# Altium schematic symbol library Connector.SchLib: 50 symbols
Pins are listed as number, name and electrical type; pins without a type are passive.

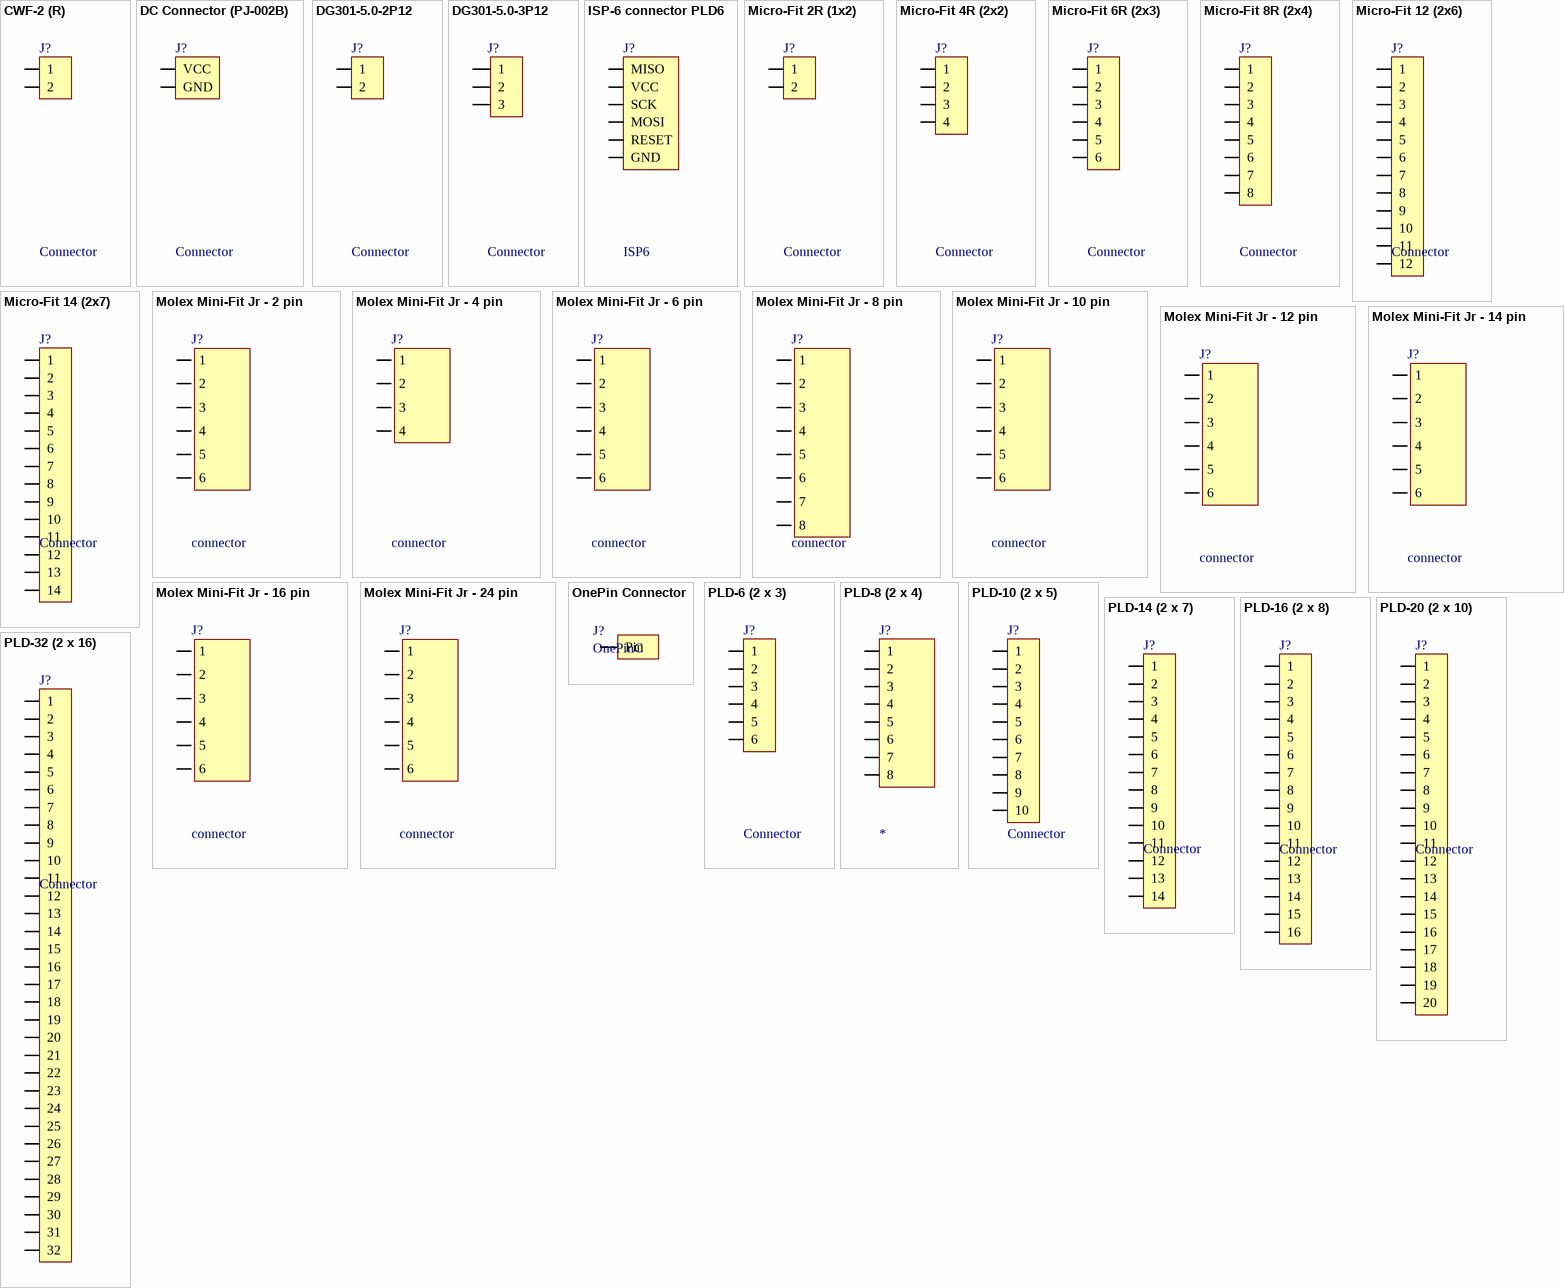
[diagram p0: symbols CWF-2 (R) to PLD-32 (2 x 16)]

## CWF-2 (R)
designator J?, comment Connector
CWF series
footprint CWF-2
footprint CWF-2 R
pins: 1, 2

## DC Connector (PJ-002B)
designator J?, comment Connector
DC Connector; Ext Pin Diameter: 5.5mm; Int Pin Diameter: 2.5
footprint DC Connector (Ext Pin D: 5.5mm; Int Pin D: 2.5mm)
pins: GND, VCC

## DG301-5.0-2P12
designator J?, comment Connector
DG301 series
footprint DG301 5mm 2p
pins: 1, 2

## DG301-5.0-3P12
designator J?, comment Connector
DG301 series
footprint DG301 5mm 3p
pins: 1, 2, 3

## ISP-6 connector PLD6
designator J?, comment ISP6
footprint LINE 2.54 x 6D (2 x 3)
pins: 1 MISO, 2 VCC, 3 SCK, 4 MOSI, 5 RESET, 6 GND

## Micro-Fit 2R (1x2)
designator J?, comment Connector
Horisontal, Dbl line, Male - 3mm; Part Number: 430450200; Name: Micro-Fit 3.0; URL: http://www.molex.com/molex/products/datasheet.jsp?part=active/0430450200_PCB_HEADERS.xml
footprint Molex Micro-Fit 3.0 - 2 pin D
footprint Molex Micro-Fit 3.0 - 2 pin D R
footprint Molex Micro-Fit 3.0 - 2 pin D NoCase
pins: 1, 2

## Micro-Fit 4R (2x2)
designator J?, comment Connector
Horisontal, Dbl line, Male - 3mm; Part Number: 0430450402; Name: Micro-Fit 3.0; URL: http://www.molex.com/molex/products/datasheet.jsp?part=active/0430450402_PCB_HEADERS.xml
footprint Molex Micro-Fit 3.0 - 4 pin D
footprint Molex Micro-Fit 3.0 - 4 pin D R
footprint Molex Micro-Fit 3.0 - 4 pin D NoCase
pins: 1, 2, 3, 4

## Micro-Fit 6R (2x3)
designator J?, comment Connector
Horisontal, Dbl line, Male - 3mm
footprint Molex Micro-Fit 3.0 - 6 pin D R
pins: 1, 2, 3, 4, 5, 6

## Micro-Fit 8R (2x4)
designator J?, comment Connector
Horisontal, Dbl line, Male - 3mm
footprint Molex Micro-Fit 3.0 - 8 pin D R
pins: 1, 2, 3, 4, 5, 6, 7, 8

## Micro-Fit 12 (2x6)
designator J?, comment Connector
Horisontal, Dbl line, Male
footprint Molex Micro-Fit 3.0 - 12 pin D R
pins: 1, 2, 3, 4, 5, 6, 7, 8, 9, 10, 11, 12

## Micro-Fit 14 (2x7)
designator J?, comment Connector
Horisontal, Dbl line, Male
footprint Molex Micro-Fit 3.0 - 14 pin D R
pins: 1, 2, 3, 4, 5, 6, 7, 8, 9, 10, 11, 12, 13, 14

## Molex Mini-Fit Jr - 2 pin
designator J?, comment connector
Right, Dbl line, Female
pins: 1, 2, 3, 4, 5, 6

## Molex Mini-Fit Jr - 4 pin
designator J?, comment connector
Right, Dbl line, Female
footprint Molex Mini-Fit Jr - 4Pin R (Molex Mega-Fit)
footprint Molex Mini-Fit Jr - 4Pin V (Molex Mega-Fit)
pins: 1, 2, 3, 4

## Molex Mini-Fit Jr - 6 pin
designator J?, comment connector
Right, Dbl line, Female
footprint Molex Mini-Fit Jr - 6Pin R (Molex Mega-Fit)
footprint Molex Mini-Fit Jr - 6Pin V (Molex Mega-Fit)
pins: 1, 2, 3, 4, 5, 6

## Molex Mini-Fit Jr - 8 pin
designator J?, comment connector
Right, Dbl line, Female
footprint Molex Mini-Fit Jr - 8Pin V (Molex Mega-Fit)
pins: 1, 2, 3, 4, 5, 6, 7, 8

## Molex Mini-Fit Jr - 10 pin
designator J?, comment connector
Right, Dbl line, Female
pins: 1, 2, 3, 4, 5, 6

## Molex Mini-Fit Jr - 12 pin
designator J?, comment connector
Right, Dbl line, Female
pins: 1, 2, 3, 4, 5, 6

## Molex Mini-Fit Jr - 14 pin
designator J?, comment connector
Right, Dbl line, Female
pins: 1, 2, 3, 4, 5, 6

## Molex Mini-Fit Jr - 16 pin
designator J?, comment connector
Right, Dbl line, Female
pins: 1, 2, 3, 4, 5, 6

## Molex Mini-Fit Jr - 24 pin
designator J?, comment connector
Right, Dbl line, Female
pins: 1, 2, 3, 4, 5, 6

## OnePin Connector
designator J?, comment OnePinC
Only pad
footprint OnePin 0.7x2
footprint OnePin 1x2
footprint OnePin 1x2.5
footprint OnePin 1.2x3
footprint OnePin 1.5x4
footprint OnePin 3x8mm
footprint OnePin 3x10mm
footprint OnePin 3x10mm Hole 0.7x8
footprint OnePin 3x10mm Hole 1x8
footprint OnePin 1x2 - Rounded
footprint OnePin 1x2 - Square
footprint OnePin 1.2x3 - Rounded
footprint OnePin 1.2x3 - Square
footprint OnePin 1.5x3
footprint OnePin 1.5x3 - Rounded
footprint OnePin 1.5x3 - Square
footprint OnePin 1.5x4 - Rounded
footprint OnePin 1.5x4 - Square
footprint OnePin 1.8x4
footprint OnePin 1.8x4 - Rounded
footprint OnePin 1.8x4 - Square
pins: 1 Pin

## PLD-6 (2 x 3)
designator J?, comment Connector
Vert, Dbl line, Male
footprint LINE 2.54 x 6D (2 x 3)
pins: 1, 2, 3, 4, 5, 6

## PLD-8 (2 x 4)
designator J?
Vert, Sgl line, Male
footprint Line 2.54 X 8D (2 x 4)
pins: 1, 2, 3, 4, 5, 6, 7, 8

## PLD-10 (2 x 5)
designator J?, comment Connector
Vert, Dbl line, Male
footprint LINE 2.54 x 10D (2 x 5)
footprint LINE 2.54 x 10D (2 x 5) - BH
pins: 1, 2, 3, 4, 5, 6, 7, 8, 9, 10

## PLD-14 (2 x 7)
designator J?, comment Connector
Vert, Dbl line, Male
footprint LINE 2.54 x 14D (2 x 7)
pins: 1, 2, 3, 4, 5, 6, 7, 8, 9, 10, 11, 12, 13, 14

## PLD-16 (2 x 8)
designator J?, comment Connector
Vert, Dbl line, Male
footprint LINE 2.54 x 16D (2 x 8)
footprint LINE 2.54 x 16D (2 x 8) Mirrored
footprint LINE 2.54 x 16D (2 x 8) BH
pins: 1, 2, 3, 4, 5, 6, 7, 8, 9, 10, 11, 12, 13, 14, 15, 16

## PLD-20 (2 x 10)
designator J?, comment Connector
Vert, Dbl line, Male
footprint LINE 2.54 x 20D (2 x 10)
footprint LINE 2.54 x 20D (2 x 10) - BH
pins: 1, 2, 3, 4, 5, 6, 7, 8, 9, 10, 11, 12, 13, 14, 15, 16, 17, 18, 19, 20

## PLD-32 (2 x 16)
designator J?, comment Connector
Vert, Dbl line, Male
footprint LINE 2.54 x 32D (2 x 16)
pins: 1, 2, 3, 4, 5, 6, 7, 8, 9, 10, 11, 12, 13, 14, 15, 16, 17, 18, 19, 20, 21, 22, 23, 24, 25, 26, 27, 28, 29, 30, 31, 32

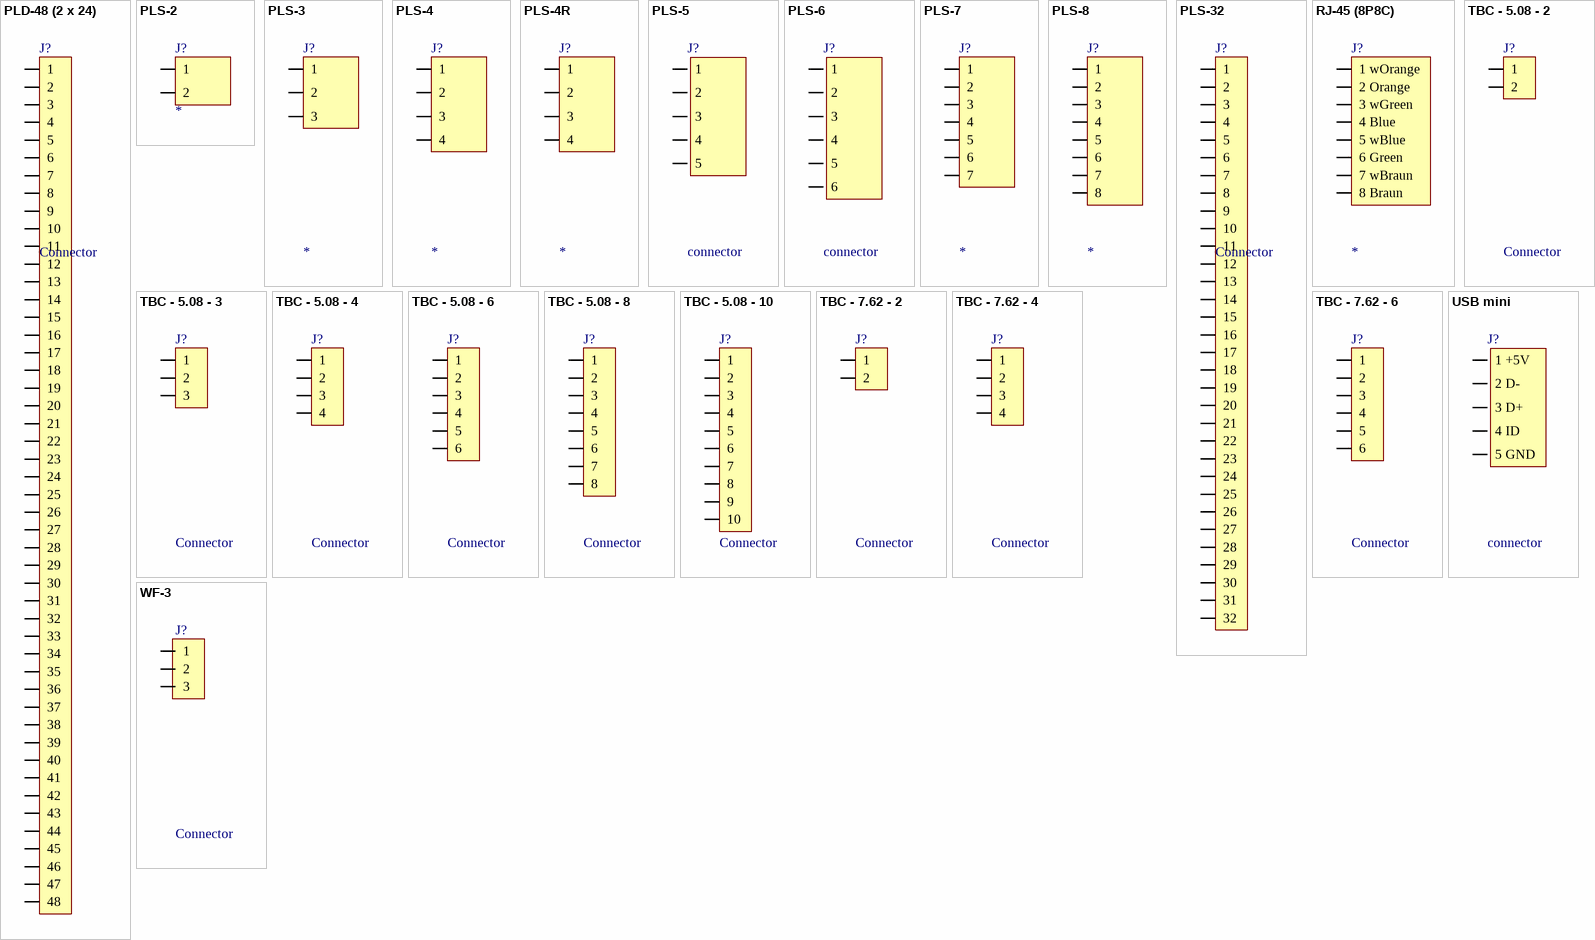
[diagram p1: symbols PLD-48 (2 x 24) to WF-3]

## PLD-48 (2 x 24)
designator J?, comment Connector
Vert, Dbl line, Male
footprint Line 2.54 X 48D (2 x 24)
pins: 1, 2, 3, 4, 5, 6, 7, 8, 9, 10, 11, 12, 13, 14, 15, 16, 17, 18, 19, 20, 21, 22, 23, 24, 25, 26, 27, 28, 29, 30, 31, 32, 33, 34, 35, 36, 37, 38, 39, 40, 41, 42, 43, 44, 45, 46, 47, 48

## PLS-2
designator J?
Vert, Sgl line, Male
footprint Line 2.54 x 2
pins: 1, 2

## PLS-3
designator J?
Vert, Sgl line, Male
footprint Line 2.54 X 3
pins: 1, 2, 3

## PLS-4
designator J?
Vert, Sgl line, Male
footprint Line 2.54 X 4
pins: 1, 2, 3, 4

## PLS-4R
designator J?
Vert, Sgl line, Male
footprint Line 2.54 X 4R
pins: 1, 2, 3, 4

## PLS-5
designator J?, comment connector
Vert, Sgl line, Male
footprint Line 2.54 x 5
footprint Line 2.54 x 5 - (D2mm)
pins: 1, 2, 3, 4, 5

## PLS-6
designator J?, comment connector
Vert, Sgl line, Male
footprint Line 2.54 x 6
pins: 1, 2, 3, 4, 5, 6

## PLS-7
designator J?
Vert, Sgl line, Male
footprint Line 2.54 x 7
footprint Line 2.54 x 7 (D2mm)
pins: 1, 2, 3, 4, 5, 6, 7

## PLS-8
designator J?
Vert, Sgl line, Male
footprint Line 2.54 x 8
pins: 1, 2, 3, 4, 5, 6, 7, 8

## PLS-32
designator J?, comment Connector
Vert, Sgl line, Male
footprint LINE 2.54 x 32
pins: 1, 2, 3, 4, 5, 6, 7, 8, 9, 10, 11, 12, 13, 14, 15, 16, 17, 18, 19, 20, 21, 22, 23, 24, 25, 26, 27, 28, 29, 30, 31, 32

## RJ-45 (8P8C)
designator J?
Ethernet
footprint RJ-45
pins: 1 1 wOrange, 2 2 Orange, 3 3 wGreen, 4 4 Blue, 5 5 wBlue, 6 6 Green, 7 7 wBraun, 8 8 Braun

## TBC - 5.08 - 2
designator J?, comment Connector
Terminal Block 5.08
footprint TBC 5.08 - 2
footprint TBC 5.08 - 2R
pins: 1, 2

## TBC - 5.08 - 3
designator J?, comment Connector
Terminal Block 5.08
footprint TBC 5.08 - 3
footprint TBC 5.08 - 3R
pins: 1, 2, 3

## TBC - 5.08 - 4
designator J?, comment Connector
Terminal Block 5.08
footprint TBC 5.08 - 4
footprint TBC 5.08 - 4R
pins: 1, 2, 3, 4

## TBC - 5.08 - 6
designator J?, comment Connector
Terminal Block 5.08
footprint TBC 5.08 - 6
footprint TBC 5.08 - 6R
pins: 1, 2, 3, 4, 5, 6

## TBC - 5.08 - 8
designator J?, comment Connector
Terminal Block 5.08
footprint TBC 5.08 - 8
footprint TBC 5.08 - 8R
pins: 1, 2, 3, 4, 5, 6, 7, 8

## TBC - 5.08 - 10
designator J?, comment Connector
Terminal Block 5.08
footprint TBC 5.08 - 10
footprint TBC 5.08 - 10R
pins: 1, 2, 3, 4, 5, 6, 7, 8, 9, 10

## TBC - 7.62 - 2
designator J?, comment Connector
Terminal Block 7.62
footprint TBC 7.62 - 2 (Terminal Block M3 screw)
pins: 1, 2

## TBC - 7.62 - 4
designator J?, comment Connector
Terminal Block 7.62
footprint TBC 7.62 - 4 (Terminal Block M3 screw)
pins: 1, 2, 3, 4

## TBC - 7.62 - 6
designator J?, comment Connector
Terminal Block 7.62
footprint TBC 7.62 - 6 (Terminal Block M3 screw)
pins: 1, 2, 3, 4, 5, 6

## USB mini
designator J?, comment connector
Mini USB
footprint USB Mini
pins: 1 1 +5V, 2 2 D-, 3 3 D+, 4 4 ID, 5 5 GND

## WF-3
designator J?, comment Connector
Standart Fan MB's Connector
footprint WF-3
pins: 1, 2, 3